# EAGLE library part ADE-1+ (library ADE-1+)
RF Mixer Level 7, SMT Double Balanced Mixer, RF/LO Freq 0.5 - 500 MHz Source: Datasheet <https://componentsearchengine.com/Datasheets/1/ADE-1 .pdf>
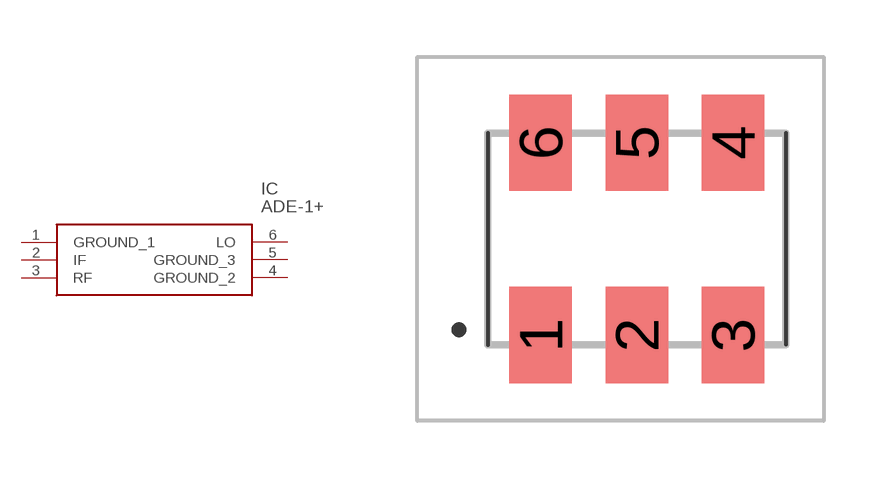
[diagram p0: symbol with the pads of ADE1; footprint ADE1]

Designator prefix IC

## ADE-1+ (Description: RF Mixer Level 7, SMT Double Balanced Mixer, RF/LO Freq 0.5 - 500 MHz; Height: 4.11mm; Manufacturer_Name: Mini-Circuits; Manufacturer_Part_Number: ADE-1+; Mouser_Part_Number: 139-ADE-1; Mouser_Price-Stock: https://www.mouser.co.uk/ProductDetail/Mini-Circuits/ADE-1%2b?qs=xZ%2FP%252Ba9zWqZNkkNe3uAsRQ%3D%3D)  [ADE1]
1  GROUND_1
2  IF
3  RF
4  GROUND_2
5  GROUND_3
6  LO

## Footprint ADE1 (pad centres in mm)
ADE-1+-3
smd 1.65 x 2.54: 1 -2.54,-2.54; 2 0,-2.54; 3 2.54,-2.54; 4 2.54,2.54; 5 0,2.54; 6 -2.54,2.54